# Altium schematic symbol library NVMYS3D3N06CL.Schlib: 1 symbol
Pins are listed as number, name and electrical type; pins without a type are passive.

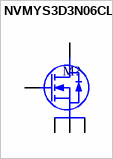
[diagram p0: symbol NVMYS3D3N06CL]

## NVMYS3D3N06CL
designator M?
60V 133A N-Channel
pins: 1 S, 2 S, 3 S, 4 G, 5 D